# Altium schematic symbol library PortSwitcher.SchLib: 4 symbols
Pins are listed as number, name and electrical type; pins without a type are passive.

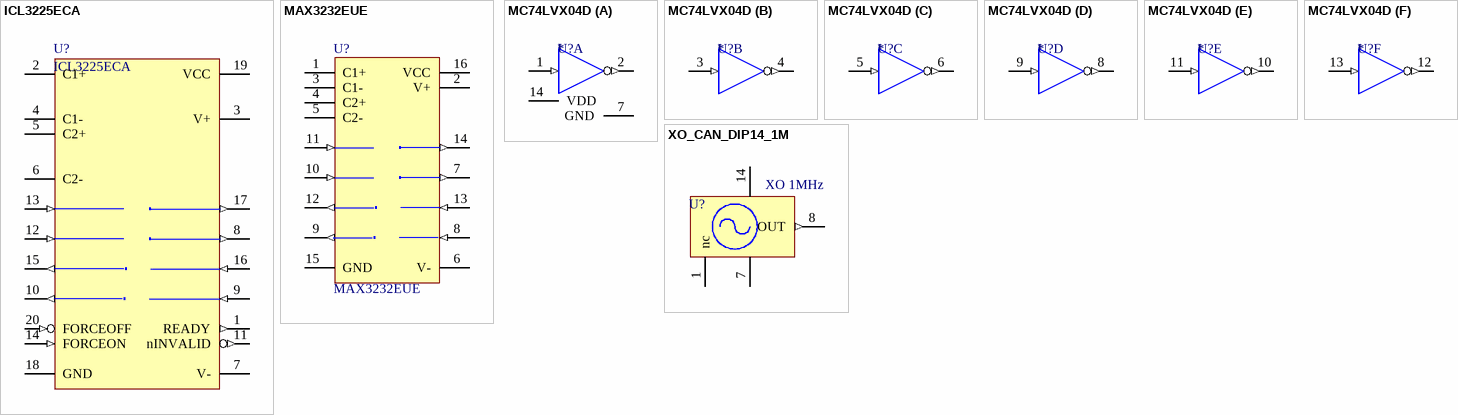
[diagram p0: symbols ICL3225ECA to XO_CAN_DIP14_1M]

## ICL3225ECA
designator U?
3.0V TO 5.5V, Low-Power, up to 1Mbps, True RS-232 Transceiver Using Four 0.1µF External Capacitor; Fitted: TRUE
footprint SSO-G20/P.65
pins: 1 READY (out), 2 C1+, 3 V+ (power), 4 C1-, 5 C2+, 6 C2-, 7 V- (power), 8 T2OUT (out), 9 R2IN (in), 10 R2OUT (out), 11 nINVALID (out), 12 T2IN (in), 13 T1IN (in), 14 FORCEON (in), 15 R1OUT (out), 16 R1IN (in), 17 T1OUT (out), 18 GND (power), 19 VCC (power), 20 FORCEOFF (in)

## MAX3232EUE
designator U?
3.0V TO 5.5V, Low-Power, up to 1Mbps, True RS-232 Transceiver Using Four 0.1µF External Capacitor; Manufacturer: Maxim,ST; Package Information: Latest Revision: 21-0066 C; Class I: Communication; Published: 16-Jan-2001; Revision: July-2002: Re-released for DXP Platform.; Datasheet: Latest Revision: Mar-1999; Package Reference: TSSOP16; Publisher: Altium Limited; Class II: Transceiver; Fitted: True
footprint SO-G16
pins: 1 C1+, 2 V+ (power), 3 C1-, 4 C2+, 5 C2-, 6 V- (power), 7 T2OUT (out), 8 R2IN (in), 9 R2OUT (out), 10 T2IN (in), 11 T1IN (in), 12 R1OUT (out), 13 R1IN (in), 14 T1OUT (out), 15 GND (power), 16 VCC (power)

## MC74LVX04D
designator U?
Hex Inverter with 5V-Tolerant Inputs; Manufacturer: ON Semiconductor; Code - JEDEC: MS-012-AB; Code - IPC: SO14; Published: 15-Apr-2002; Datasheet: Latest Revision: 1997; Package Reference: 751A-03; Publisher: Altium Limited
footprint 751A-03 (Small Outline; 14 Leads; Body Width 3.9 mm; Pitch 1.27 mm)
part A pins: 1 IN (in), 2 ~{OUT} (out), 7 GND (power), 14 VDD (power)
part B pins: 3 IN (in), 4 ~{OUT} (out)
part C pins: 5 IN (in), 6 ~{OUT} (out)
part D pins: 8 ~{OUT} (out), 9 IN (in)
part E pins: 10 ~{OUT} (out), 11 IN (in)
part F pins: 12 ~{OUT} (out), 13 IN (in)

## XO_CAN_DIP14_1M
designator U?, comment XO 1MHz
IC, Oscillator, Canned, CMOS o/p, General Purpose, No Enable/Disable, 1MHz; Text Field1: TBA
footprint Model Name (Footprint not found)
pins: 1 nc, 7 GND (power), 8 OUT (out), 14 VCC (power)